# Altium schematic symbol library MIC29300.SchLib: 1 symbol
Pins are listed as number, name and electrical type; pins without a type are passive.

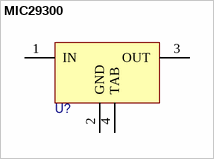
[diagram p0: symbol MIC29300]

## MIC29300
designator U?
pins: 1 IN, 2 GND, 3 OUT, 4 TAB